# Altium schematic symbol library S25FL127SABMFV101.SchLib: 1 symbol
Pins are listed as number, name and electrical type; pins without a type are passive.

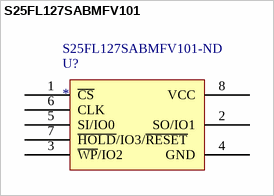
[diagram p0: symbol S25FL127SABMFV101]

## S25FL127SABMFV101
designator U?  Supplier Part Number 1: S25FL127SABMFV101-ND
IC FLASH 128MBIT SPI CMOS 8SOIC; Manufacturer: Cypress; Manufacturer Part Number: S25FL127SABMFV101; Memory Type: NOR,FLASH; Frequency: 108MHz; Interface: SPI,Serial; Supplier 1: Digikey; Stock 1: 0; Pricing 1: 273=2.2191 (USD); Case/Package: SOIC; Min Operating Temperature: -40°C; Max Operating Temperature: 105°C; Packaging: Rail/Tube
footprint SOIC127P800X216-8N (SOIC, 8-Leads, Body 5.28x5.28mm, Pitch 1.27mm, IPC Medium Density)
pins: 1 ~{CS}, 2 SO/IO1, 3 ~{WP}/IO2, 4 GND, 5 SI/IO0, 6 CLK, 7 ~{HOLD}/IO3/~{RESET}, 8 VCC